# Altium footprint library SnapEDApcb.PcbLib: 1 footprints
Each footprint in its own frame and in the unit in brackets; x right, y up, seen from the top. Pads: shape width x height; smd on the part's side, far side on the other; paste and mask are expansions set on the pad; w line width, h text height; cw(c..) or ccw(c..) is an arc to the next point about the centre after c.
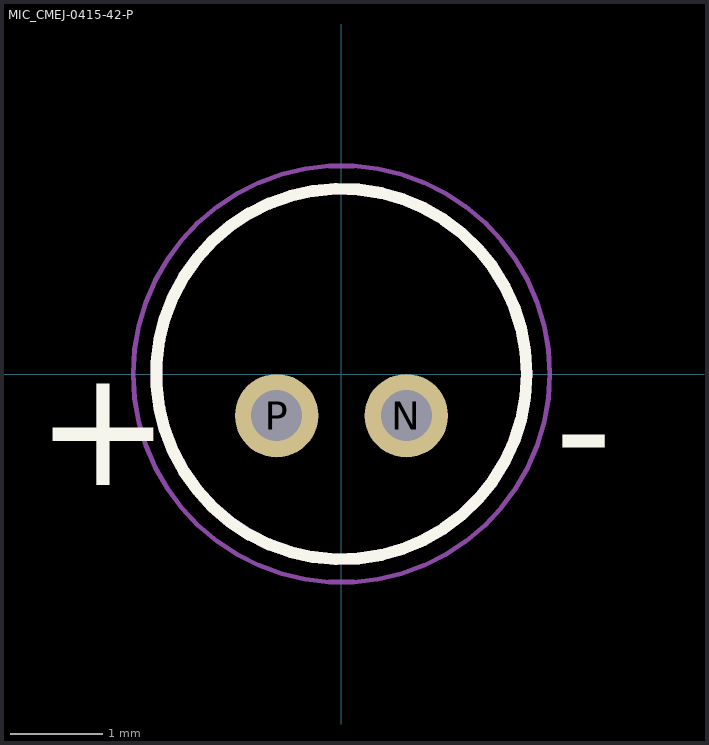
[diagram p0: the footprint, top view; thin cyan lines are the x and y axes]

## MIC_CMEJ-0415-42-P [mm]
pads (2):
  round 0.9 hole 0.55: N(0.7,-0.45) P(-0.7,-0.45)
Top Overlay:
  circle w0.127: c0,0 r2
  text "+" at -3.3,-1.2 h1.27
  text "-" at 2.3,-1.2 h1.27
Mechanical 13:
  circle w0.127: c0,0 r2
  text "+" at -3.3,-1.2 h1.27
  text "-" at 2.3,-1.2 h1.27
Mechanical 15:
  circle w0.05: c0,0 r2.25